# Altium footprint library TO.PcbLib: 9 footprints
Each footprint in its own frame and in the unit in brackets; x right, y up, seen from the top. Pads: shape width x height; smd on the part's side, far side on the other; paste and mask are expansions set on the pad; w line width, h text height; cw(c..) or ccw(c..) is an arc to the next point about the centre after c.
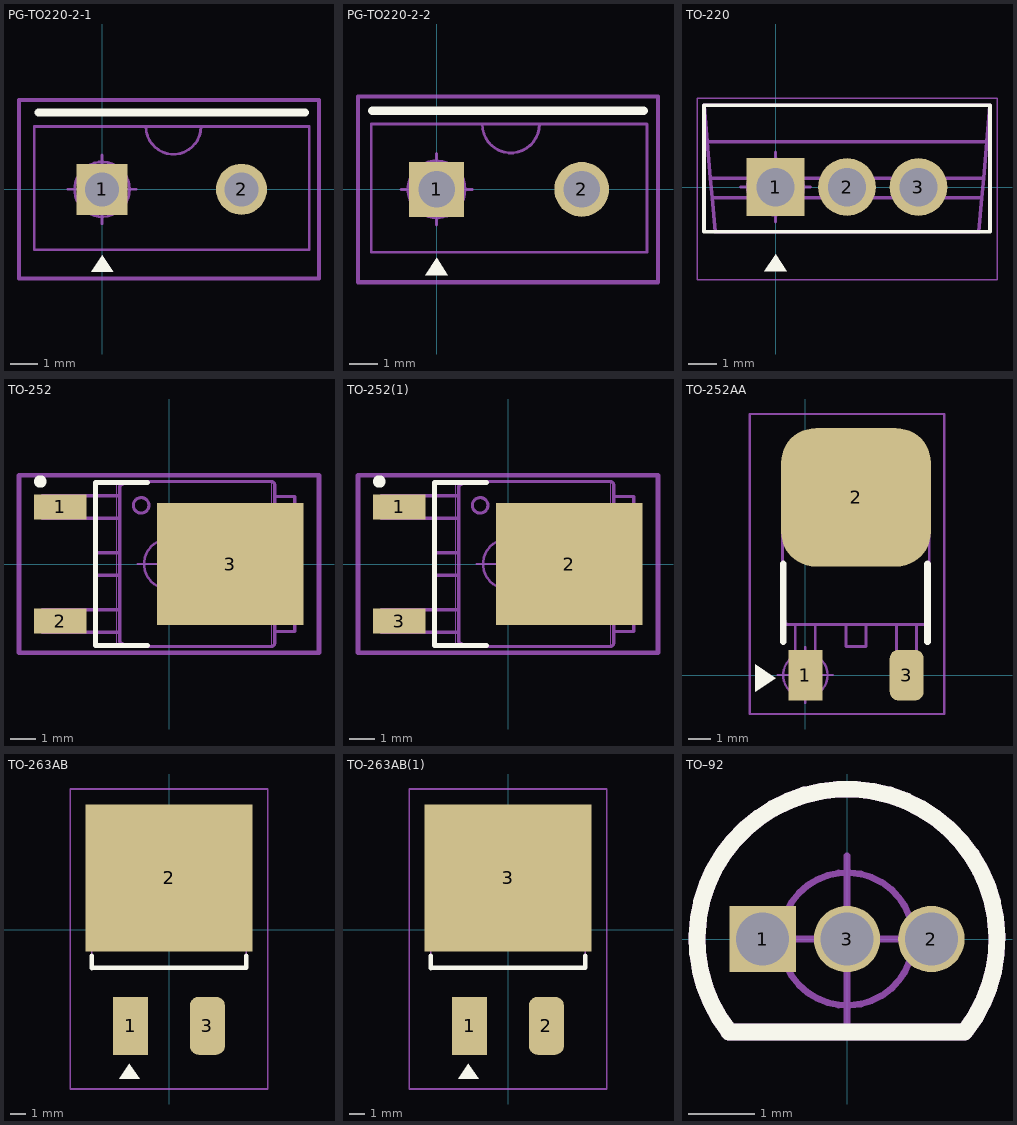
[diagram p0: the footprints below, top view; thin cyan lines are the x and y axes]

## PG-TO220-2-1 [mm]
pads (2):
  rect 1.86x1.86 hole 1.24: 1(0,0)
  round 1.86 hole 1.24: 2(5.08,0)
Top Overlay:
  region: -0.4,-3 0.4,-3 0,-2.4
  lines w0.3: -2.311,2.794 7.391,2.794
Bottom Overlay:
  region: -0.5,-3 0.5,-3 0,-2.25
Top Assembly:
  lines w0.1: 1.6,2.275 ccw(c2.6,2.275) 3.6,2.275 ; -2.464,-2.2 7.544,-2.2 7.544,2.286 -2.464,2.286 -2.464,-2.2
Top Component Outline:
  circle w0.1: c0,0 r1
  lines w0.1: -1.25,0 1.25,0 ; 0,-1.25 0,1.25
  lines w0.152: -3.023,-3.25 7.899,-3.25 7.899,3.25 -3.023,3.25 -3.023,-3.25
3D body "IDH02G120C5XKSA1.stp": height 19.15, standoff -18.5, extent -2.46,-1.7 7.54,2.8

## PG-TO220-2-2 [mm]
pads (2):
  rect 1.92x1.92 hole 1.28: 1(0,0)
  round 1.92 hole 1.28: 2(5.08,0)
Top Overlay:
  region: -0.4,-3 0.4,-3 0,-2.4
  lines w0.3: -2.25,2.75 7.25,2.75
Bottom Overlay:
  region: -0.5,-3 0.5,-3 0,-2.25
Top Assembly:
  lines w0.1: 1.6,2.275 ccw(c2.6,2.275) 3.6,2.275 ; -2.286,-2.2 -2.286,2.286 7.366,2.286 7.366,-2.2 -2.286,-2.2
Top Component Outline:
  lines w0.152: -2.75,-3.25 7.75,-3.25 7.75,3.25 -2.75,3.25 -2.75,-3.25
Top Component Center:
  circle w0.1: c0,0 r1
  lines w0.1: -1.25,0 1.25,0 ; 0,-1.25 0,1.25
3D body "PG-TO220-2-2.STEP": height 19.3, standoff -9.08, extent -2.326,-2.2 7.326,2.3

## TO-220 [mm]
height 20
pads (3):
  rect 2.055x2.055 / inner round 2.055 / far side rect 2.055x2.055 hole 1.37: 1(0,0)
  round 2.055 hole 1.37: 2(2.55,0) 3(5.1,0)
Top Overlay:
  region: -0.4,-3 0.4,-3 0,-2.4
  lines w0.127: -2.55,-1.587 -2.55,2.913 7.65,2.913 7.65,-1.587 -2.55,-1.587
Bottom Overlay:
  region: -0.5,-3 0.5,-3 0,-2.25
Top Assembly:
  lines w0.1: -2.156,-1.587 -1.752,-1.587
  lines w0.127: -2.436,1.612 -2.323,0.312 ; -2.436,1.612 -2.55,2.912 7.65,2.913 7.536,1.613 ; -2.436,1.612 7.536,1.613 ; -2.323,0.312 -2.261,-0.387 ; -2.323,0.312 7.423,0.313 ; -2.261,-0.387 -2.156,-1.587 7.256,-1.587 7.361,-0.387 ; -2.261,-0.387 7.361,-0.387 ; 7.361,-0.387 7.423,0.313 ; 7.423,0.313 7.536,1.613
Top Component Outline:
  lines w0.05: -2.8,-3.302 -2.8,3.163 7.9,3.163 7.9,-3.302 -2.8,-3.302
Top Component Center:
  circle w0.1: c0,0 r1
  lines w0.1: -1.25,0 1.25,0 ; 0,-1.25 0,1.25
3D body "step_temp.STEP": height 20, standoff -10.6, extent -2.55,-1.587 7.65,2.913

## TO-252 [mm]
pads (3):
  rect 2.1x1 smd: 1(-4.35,2.28) 2(-4.35,-2.28)
  rect 5.85x4.9 smd: 3(2.45,0)
Top Overlay:
  circle w0.25: c-5.15,3.3 r0.125
  lines w0.2: -0.85,-3.25 -2.95,-3.25 -2.95,3.25 -0.85,3.25
Top Assembly:
  circle w0.127: c-1.115,2.346 r0.31
  lines w0.127: -1.817,-3.258 cw(c-1.818,-3.108) -1.863,-3.251 cw(c-1.818,-3.109) -1.924,-3.214 ; -1.817,-3.197 cw(c-1.816,-3.046) -1.95,-3.116 cw(c-1.818,-3.047) -1.967,-3.048 -1.967,-3.047 ; -1.817,3.197 ccw(c-1.816,3.046) -1.959,3.094 ccw(c-1.818,3.047) -1.967,3.048 -1.967,3.047 ; -1.817,3.258 ccw(c-1.818,3.108) -1.885,3.242 ccw(c-1.818,3.109) -1.924,3.214 ; -1.967,-3.047 -1.967,3.047 ; -1.967,-3.047 -1.967,-3.11 ccw(c-1.819,-3.11) -1.924,-3.214 ; -1.967,3.047 -1.967,3.11 cw(c-1.819,3.11) -1.924,3.214 ; -1.924,-3.214 -1.881,-3.257 ccw(c-1.777,-3.152) -1.777,-3.3 -1.775,-3.3 4.083,-3.3 ccw(c4.083,-3.15) 4.106,-3.298 ccw(c4.083,-3.15) 4.233,-3.15 4.233,-3.127 4.233,-2.35 ; -1.924,3.214 -1.881,3.257 cw(c-1.777,3.152) -1.777,3.3 -1.775,3.3 4.083,3.3 cw(c4.083,3.15) 4.106,3.298 cw(c4.083,3.15) 4.233,3.15 4.233,3.127 4.233,2.35 ; 4.233,-2.35 4.233,2.35 ; 4.233,-2.35 4.233,-2.7 5.033,-2.7 5.033,2.7 4.233,2.7 4.233,2.35 ; -5.067,-2.73 -5.067,-1.83 -4.031,-1.83 -3.866,-1.83 -3.331,-1.83 -2.967,-1.83 -1.967,-1.83 -1.967,-2.73 -2.967,-2.73 -3.331,-2.73 -3.866,-2.73 -4.031,-2.73 -5.067,-2.73 ; -5.067,1.83 -5.067,2.73 -4.031,2.73 -3.866,2.73 -3.331,2.73 -2.967,2.73 -1.967,2.73 -1.967,1.83 -2.967,1.83 -3.331,1.83 -3.866,1.83 -4.031,1.83 -5.067,1.83 ; -2.967,-0.45 -2.967,0.45 -1.967,0.45 -1.967,-0.45 -2.967,-0.45
Top Component Outline:
  circle w0.1: c0,0 r1
  lines w0.1: -1.25,0 1.25,0 ; 0,-1.25 0,1.25
Bottom Component Outline:
  circle w0.05: c0,0 r0.35
  lines w0.001: -2.088,-3.3 -2.088,3.3 4.112,3.3 4.112,-3.3 -2.088,-3.3
  lines w0.05: -0.5,0 0.5,0 ; 0,-0.5 0,0.5
Top Component Center:
  lines w0.2: -6,-3.55 -6,3.55 6,3.55 6,-3.55 -6,-3.55
3D body "TO-252.stp": height 2.4, standoff 0.01, extent -4.94,-3.33 5.16,3.27

## TO-252(1) [mm]
pads (3):
  rect 2.1x1 smd: 1(-4.35,2.28) 3(-4.35,-2.28)
  rect 5.85x4.9 smd: 2(2.45,0)
Top Overlay:
  circle w0.25: c-5.15,3.3 r0.125
  lines w0.2: -0.85,-3.25 -2.95,-3.25 -2.95,3.25 -0.85,3.25
Top Assembly:
  circle w0.127: c-1.115,2.346 r0.31
  lines w0.127: -1.817,-3.258 cw(c-1.818,-3.108) -1.863,-3.251 cw(c-1.818,-3.109) -1.924,-3.214 ; -1.817,-3.197 cw(c-1.816,-3.046) -1.95,-3.116 cw(c-1.818,-3.047) -1.967,-3.048 -1.967,-3.047 ; -1.817,3.197 ccw(c-1.816,3.046) -1.959,3.094 ccw(c-1.818,3.047) -1.967,3.048 -1.967,3.047 ; -1.817,3.258 ccw(c-1.818,3.108) -1.885,3.242 ccw(c-1.818,3.109) -1.924,3.214 ; -1.967,-3.047 -1.967,3.047 ; -1.967,-3.047 -1.967,-3.11 ccw(c-1.819,-3.11) -1.924,-3.214 ; -1.967,3.047 -1.967,3.11 cw(c-1.819,3.11) -1.924,3.214 ; -1.924,-3.214 -1.881,-3.257 ccw(c-1.777,-3.152) -1.777,-3.3 -1.775,-3.3 4.083,-3.3 ccw(c4.083,-3.15) 4.106,-3.298 ccw(c4.083,-3.15) 4.233,-3.15 4.233,-3.127 4.233,-2.35 ; -1.924,3.214 -1.881,3.257 cw(c-1.777,3.152) -1.777,3.3 -1.775,3.3 4.083,3.3 cw(c4.083,3.15) 4.106,3.298 cw(c4.083,3.15) 4.233,3.15 4.233,3.127 4.233,2.35 ; 4.233,-2.35 4.233,2.35 ; 4.233,-2.35 4.233,-2.7 5.033,-2.7 5.033,2.7 4.233,2.7 4.233,2.35 ; -5.067,-2.73 -5.067,-1.83 -4.031,-1.83 -3.866,-1.83 -3.331,-1.83 -2.967,-1.83 -1.967,-1.83 -1.967,-2.73 -2.967,-2.73 -3.331,-2.73 -3.866,-2.73 -4.031,-2.73 -5.067,-2.73 ; -5.067,1.83 -5.067,2.73 -4.031,2.73 -3.866,2.73 -3.331,2.73 -2.967,2.73 -1.967,2.73 -1.967,1.83 -2.967,1.83 -3.331,1.83 -3.866,1.83 -4.031,1.83 -5.067,1.83 ; -2.967,-0.45 -2.967,0.45 -1.967,0.45 -1.967,-0.45 -2.967,-0.45
Top Component Outline:
  circle w0.1: c0,0 r1
  lines w0.1: -1.25,0 1.25,0 ; 0,-1.25 0,1.25
Bottom Component Outline:
  circle w0.05: c0,0 r0.35
  lines w0.001: -2.088,-3.3 4.112,-3.3 4.112,3.3 -2.088,3.3 -2.088,-3.3
  lines w0.05: -0.5,0 0.5,0 ; 0,-0.5 0,0.5
Top Component Center:
  lines w0.2: -6,-3.55 6,-3.55 6,3.55 -6,3.55 -6,-3.55
3D body "TO-252.stp": height 2.4, standoff 0.01, extent -4.94,-3.33 5.16,3.27

## TO-252AA [mm]
pads (3):
  rect 1.524x2.28 smd: 1(0,0)
  rrect50% 6.74x6.23 smd: 2(2.28,8)
  rrect50% 1.524x2.28 smd: 3(4.56,0)
Top Overlay:
  region: -2.25,0.483 -2.25,-0.75 -1.325,-0.133
  lines w0.3: -1,1.5 -1,5 ; 5.5,1.5 5.5,5
Top Assembly:
  lines w0.127: -0.983,2.433 ccw(c-0.833,2.432) -0.967,2.365 ccw(c-0.834,2.432) -0.939,2.326 ; -0.922,2.433 ccw(c-0.771,2.434) -0.819,2.291 ccw(c-0.772,2.432) -0.773,2.283 -0.772,2.283 ; 5.472,2.433 cw(c5.321,2.434) 5.391,2.3 cw(c5.322,2.432) 5.323,2.283 5.322,2.283 ; 5.533,2.433 cw(c5.383,2.432) 5.526,2.387 cw(c5.384,2.432) 5.489,2.326 ; -0.939,2.326 ccw(c-0.835,2.431) -0.835,2.283 -0.772,2.283 ; -0.939,2.326 -0.982,2.369 cw(c-0.877,2.473) -1.025,2.473 -1.025,2.475 -1.025,8.333 cw(c-0.875,8.333) -1.023,8.356 cw(c-0.875,8.333) -0.875,8.483 -0.852,8.483 -0.075,8.483 ; -0.772,2.283 5.322,2.283 ; -0.075,8.483 -0.425,8.483 -0.425,9.283 4.975,9.283 4.975,8.483 4.625,8.483 ; -0.075,8.483 4.625,8.483 ; 4.625,8.483 5.402,8.483 5.425,8.483 cw(c5.425,8.333) 5.573,8.356 cw(c5.425,8.333) 5.575,8.333 5.575,2.475 5.575,2.473 cw(c5.427,2.473) 5.532,2.369 5.489,2.326 ; 5.322,2.283 5.385,2.283 ccw(c5.385,2.431) 5.489,2.326 ; -0.455,-0.817 -0.455,0.219 -0.455,0.384 -0.455,0.919 -0.455,1.283 -0.455,2.283 0.445,2.283 0.445,1.283 0.445,0.919 0.445,0.384 0.445,0.219 0.445,-0.817 -0.455,-0.817 ; 1.825,1.283 1.825,2.283 2.725,2.283 2.725,1.283 1.825,1.283 ; 4.105,-0.817 4.105,0.219 4.105,0.384 4.105,0.919 4.105,1.283 4.105,2.283 5.005,2.283 5.005,1.283 5.005,0.919 5.005,0.384 5.005,0.219 5.005,-0.817 4.105,-0.817
Top Component Outline:
  circle w0.1: c0,0 r1
  lines w0.1: -1.25,0 1.25,0 ; 0,-1.25 0,1.25 ; -2.5,-1.75 -2.5,11.75 6.25,11.75 6.25,-1.75 -2.5,-1.75
3D body "User Library-TO252AA-1.STEP": height 2.3, standoff -0.01, extent -1,-0.5 5.58,9.2

## TO-263AB [mm]
pads (3):
  rect 2.32x3.81 smd: 1(-2.525,-6.32)
  rect 11x9.65 smd: 2(0,3.4)
  rrect50% 2.32x3.81 smd: 3(2.525,-6.32)
Top Overlay:
  region: -3.267,-9.8 -1.933,-9.8 -2.6,-8.8
  lines w0.3: -5.08,-1.72 -5.08,-2.52 5.08,-2.505 5.08,-1.72
BOAS 13:
  lines w0.1: -5.08,-2.505 -5.08,6.575 5.08,6.575 5.08,-2.505 -5.08,-2.505
Top Component Outline:
  circle w0.1: c-0.025,0.025 r1
  lines w0.1: -1.275,0.025 1.225,0.025 ; -0.025,-1.225 -0.025,1.275 ; -6.5,-10.475 -6.5,9.25 6.5,9.25 6.5,-10.475 -6.5,-10.475
3D body "User Library-DPAK4P254_1524X483L228X146T686X1067.STEP": height 4.83, standoff 0, extent -5.335,-7.622 5.335,7.622

## TO-263AB(1) [mm]
pads (3):
  rect 2.32x3.81 smd: 1(-2.525,-6.32)
  rrect50% 2.32x3.81 smd: 2(2.525,-6.32)
  rect 11x9.65 smd: 3(0,3.4)
Top Overlay:
  region: -3.267,-9.8 -1.933,-9.8 -2.6,-8.8
  lines w0.3: -5.08,-1.72 -5.08,-2.52 5.08,-2.505 5.08,-1.72
BOAS 13:
  lines w0.1: -5.08,-2.505 5.08,-2.505 5.08,6.575 -5.08,6.575 -5.08,-2.505
Top Component Outline:
  circle w0.1: c-0.025,0.025 r1
  lines w0.1: -1.275,0.025 1.225,0.025 ; -0.025,-1.225 -0.025,1.275 ; -6.5,-10.475 6.5,-10.475 6.5,9.25 -6.5,9.25 -6.5,-10.475
3D body "User Library-DPAK4P254_1524X483L228X146T686X1067.STEP": height 4.83, standoff 0, extent -5.335,-7.622 5.335,7.622

## TO–92 [mm]
pads (3):
  rect 1x1 hole 0.8: 1(-1.27,0)
  round 1 hole 0.8: 2(1.27,0) 3(0,0)
Top Overlay:
  lines w0.254: -1.778,-1.4 1.764,-1.4 ; -1.77,-1.4 cw(c0,0) 1.768,-1.403
Top Assembly:
  lines w0.254: -1.778,-1.4 1.764,-1.4 ; -1.77,-1.4 cw(c0,0) 1.768,-1.403
Top Component Outline:
  circle w0.1: c0,0 r1
  lines w0.1: -1.25,0 1.25,0 ; 0,-1.25 0,1.25
  lines w0.254: -1.778,-1.4 1.764,-1.4 ; -1.77,-1.4 cw(c0,0) 1.768,-1.403
3D body "BC548.stp": height 7.11, standoff -0.69, extent -2.3,-1.651 2.3,2.049